# EAGLE library part SI4946 (library neels)
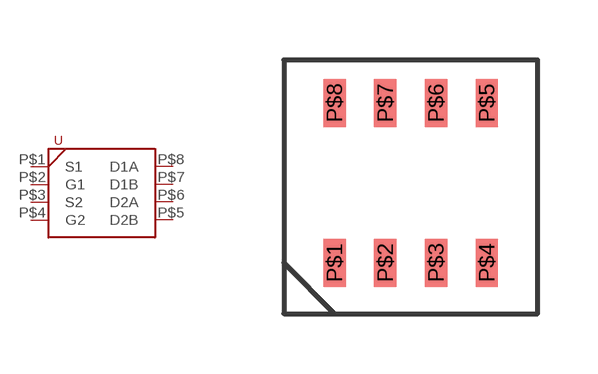
[diagram p11: symbol with the pads of SO-8; footprint SO-8]

Designator prefix -

## SI4946  [SO-8]
P$1  S1
P$2  G1
P$3  S2
P$4  G2
P$5  D2B
P$6  D2A
P$7  D1B
P$8  D1A

## Footprint SO-8 (pad centres in mm)
smd 0.56 x 1.2: P$1 0,0; P$2 1.27,0; P$3 2.54,0; P$4 3.81,0; P$5 3.81,4; P$6 2.54,4; P$7 1.27,4; P$8 0,4